# Altium schematic symbol library Inductor.SchLib: 65 symbols
Pins are listed as number, name and electrical type; pins without a type are passive.

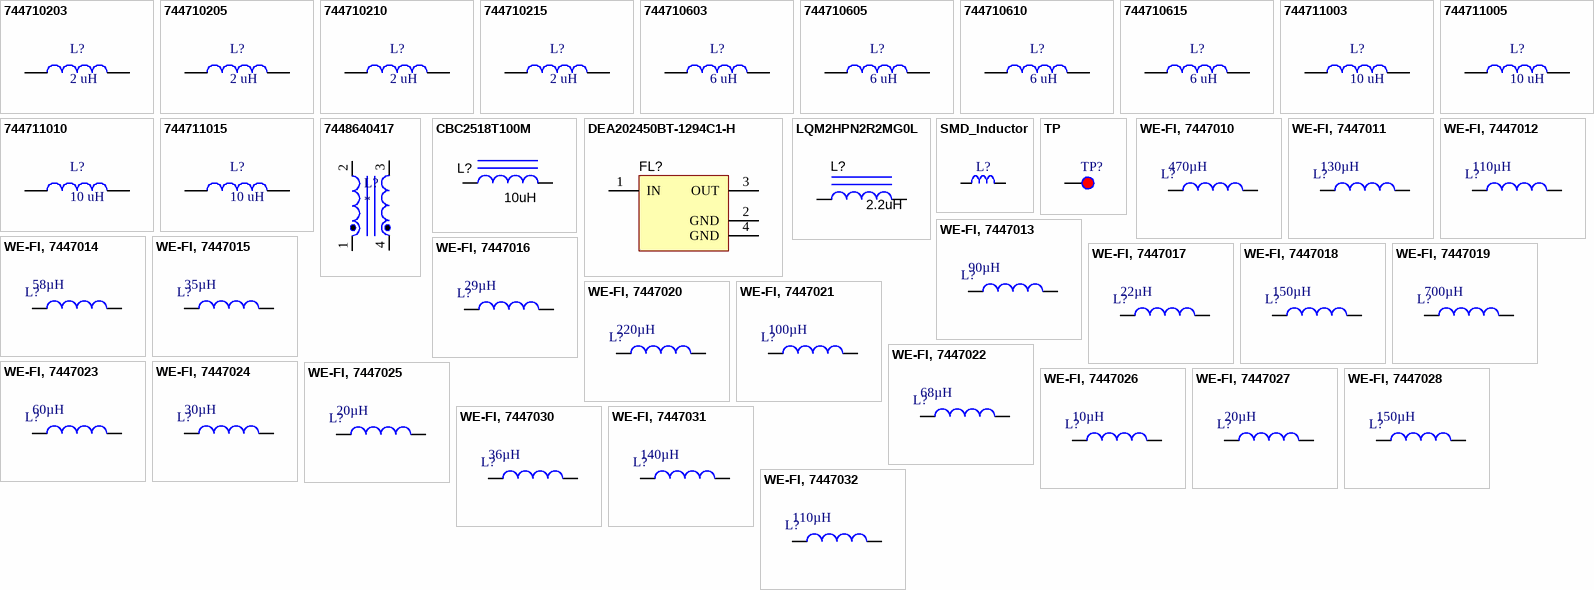
[diagram p0: symbols 744710203 to WE-FI, 7447032]

## 744710203
designator L?, comment 2 uH
WE-SD Rod Core Choke, 2 uH; PartNumber: 744710203; RatedCurrent: 2.5 A; PublishedDate: Nov. 2016; Publisher: Wurth Elektronik; ComponentLink1Description: Manufacturer; ComponentLink1URL: http://www.we-online.de; ComponentLink2Description: Datasheet; ComponentLink2URL: http://katalog.we-online.de/pbs/datasheet/744710203.pdf; Value: 2 uH
footprint 744710203
pins: 1, 2

## 744710205
designator L?, comment 2 uH
WE-SD Rod Core Choke, 2 uH; PartNumber: 744710205; RatedCurrent: 5 A; PublishedDate: Nov. 2016; Publisher: Wurth Elektronik; ComponentLink1Description: Manufacturer; ComponentLink1URL: http://www.we-online.de; ComponentLink2Description: Datasheet; ComponentLink2URL: http://katalog.we-online.de/pbs/datasheet/744710205.pdf; Value: 2 uH
footprint 744710205
pins: 1, 2

## 744710210
designator L?, comment 2 uH
WE-SD Rod Core Choke, 2 uH; PartNumber: 744710210; RatedCurrent: 10 A; PublishedDate: Nov. 2016; Publisher: Wurth Elektronik; ComponentLink1Description: Manufacturer; ComponentLink1URL: http://www.we-online.de; ComponentLink2Description: Datasheet; ComponentLink2URL: http://katalog.we-online.de/pbs/datasheet/744710210.pdf; Value: 2 uH
footprint 744710210
pins: 1, 2

## 744710215
designator L?, comment 2 uH
WE-SD Rod Core Choke, 2 uH; PartNumber: 744710215; RatedCurrent: 15 A; PublishedDate: Nov. 2016; Publisher: Wurth Elektronik; ComponentLink1Description: Manufacturer; ComponentLink1URL: http://www.we-online.de; ComponentLink2Description: Datasheet; ComponentLink2URL: http://katalog.we-online.de/pbs/datasheet/744710215.pdf; Value: 2 uH
footprint 744710215
pins: 1, 2

## 744710603
designator L?, comment 6 uH
WE-SD Rod Core Choke, 6 uH; PartNumber: 744710603; RatedCurrent: 2.5 A; PublishedDate: Nov. 2016; Publisher: Wurth Elektronik; ComponentLink1Description: Manufacturer; ComponentLink1URL: http://www.we-online.de; ComponentLink2Description: Datasheet; ComponentLink2URL: http://katalog.we-online.de/pbs/datasheet/744710603.pdf; Value: 6 uH
footprint 744710603
pins: 1, 2

## 744710605
designator L?, comment 6 uH
WE-SD Rod Core Choke, 6 uH; PartNumber: 744710605; RatedCurrent: 5 A; PublishedDate: Nov. 2016; Publisher: Wurth Elektronik; ComponentLink1Description: Manufacturer; ComponentLink1URL: http://www.we-online.de; ComponentLink2Description: Datasheet; ComponentLink2URL: http://katalog.we-online.de/pbs/datasheet/744710605.pdf; Value: 6 uH
footprint 744710605
pins: 1, 2

## 744710610
designator L?, comment 6 uH
WE-SD Rod Core Choke, 6 uH; PartNumber: 744710610; RatedCurrent: 10 A; PublishedDate: Nov. 2016; Publisher: Wurth Elektronik; ComponentLink1Description: Manufacturer; ComponentLink1URL: http://www.we-online.de; ComponentLink2Description: Datasheet; ComponentLink2URL: http://katalog.we-online.de/pbs/datasheet/744710610.pdf; Value: 6 uH
footprint 744710610
pins: 1, 2

## 744710615
designator L?, comment 6 uH
WE-SD Rod Core Choke, 6 uH; PartNumber: 744710615; RatedCurrent: 15 A; PublishedDate: Nov. 2016; Publisher: Wurth Elektronik; ComponentLink1Description: Manufacturer; ComponentLink1URL: http://www.we-online.de; ComponentLink2Description: Datasheet; ComponentLink2URL: http://katalog.we-online.de/pbs/datasheet/744710615.pdf; Value: 6 uH
footprint 744710615
pins: 1, 2

## 744711003
designator L?, comment 10 uH
WE-SD Rod Core Choke, 10 uH; PartNumber: 744711003; RatedCurrent: 2.5 A; PublishedDate: Nov. 2016; Publisher: Wurth Elektronik; ComponentLink1Description: Manufacturer; ComponentLink1URL: http://www.we-online.de; ComponentLink2Description: Datasheet; ComponentLink2URL: http://katalog.we-online.de/pbs/datasheet/744711003.pdf; Value: 10 uH
footprint 744711003
pins: 1, 2

## 744711005
designator L?, comment 10 uH
WE-SD Rod Core Choke, 10 uH; PartNumber: 744711005; RatedCurrent: 5 A; PublishedDate: Nov. 2016; Publisher: Wurth Elektronik; ComponentLink1Description: Manufacturer; ComponentLink1URL: http://www.we-online.de; ComponentLink2Description: Datasheet; ComponentLink2URL: http://katalog.we-online.de/pbs/datasheet/744711005.pdf; Value: 10 uH
footprint 744711005
pins: 1, 2

## 744711010
designator L?, comment 10 uH
WE-SD Rod Core Choke, 10 uH; PartNumber: 744711010; RatedCurrent: 10 A; PublishedDate: Nov. 2016; Publisher: Wurth Elektronik; ComponentLink1Description: Manufacturer; ComponentLink1URL: http://www.we-online.de; ComponentLink2Description: Datasheet; ComponentLink2URL: http://katalog.we-online.de/pbs/datasheet/744711010.pdf; Value: 10 uH
footprint 744711010
pins: 1, 2

## 744711015
designator L?, comment 10 uH
WE-SD Rod Core Choke, 10 uH; PartNumber: 744711015; RatedCurrent: 15 A; PublishedDate: Nov. 2016; Publisher: Wurth Elektronik; ComponentLink1Description: Manufacturer; ComponentLink1URL: http://www.we-online.de; ComponentLink2Description: Datasheet; ComponentLink2URL: http://katalog.we-online.de/pbs/datasheet/744711015.pdf; Value: 10 uH
footprint 744711015
pins: 1, 2

## 7448640417
designator L?
footprint 7448640417
pins: 1, 2, 3, 4

## CBC2518T100M
designator L?  value 10uH  (hidden comment: CBC2518T100M)
Inductor, Wirewound, Ceramic, 10 µH, 0.48 A, 0.36 ohm, SMD; Manufacturer: Taiyo Yuden; Ind_H: 10.0E-6; ValueDisplayed: 10µH; Imax_A: 0.48; Irms: 0.68A @ 40C rise; Isat: 0.48A @ 30% inductance drop; DCR_ohm: 0.36; Value2: 0.48A; SymbolVersion: 2008-07-23; CompType: Inductor; PartNumber: CBC2518T100M; Value1: 0.36 ohm; Technology: Wirewound; MountType: SMT; Material: Ceramic; PackageReference: 2.5x1.8x1.8mm; Published: 2008-06-26; Publisher: Texas Instruments; LatestRevisionDate: 2015-02-17; ComponentLink1Description: Datasheet link; ComponentLink1URL: http://www.yuden.co.jp/productdata/catalog/en/wound02_e.pdf; RoHS: Y; Supplier 1: Digi-Key; Supplier Part Number 1: 587-1613-1-ND; Supplier 2: Farnell; Supplier Part Number 2: 1786111
signal-integrity model Inductor
simulation model Inductor
footprint CBC2518
pins: 1, 2

## DEA202450BT-1294C1-H
designator FL?  (value not drawn)
Multilayer Chip Band Pass Filter For 2.4GHz W-LAN/Bluetooth, SMD; Manufacturer: TDK; SymbolCreator: Altium; Value: 1.02 dB; SymbolVersion: 2015-01-04; PartNumber: DEA202450BT-1294C1-H; CompType: Filter; MountType: SMT; ComponentLink1Description: Datasheet Link; ComponentLink1URL: http://product.tdk.com/en/catalog/datasheets/rf_bpf_dea202450bt-1294c1-h_en.pdf; RoHS: Y; PackageReference: 2x1.25mm; Publisher: Texas Instruments; LatestRevisionDate: 2015-02-19; Supplier 1: Digi-Key; Supplier Part Number 1: 445-172335-1-ND; Supplier 2: Mouser; Supplier Part Number 2: 810-DEA202450BT1294C
footprint TDK_DEA202450BT-1294C1-H
pins: 1 IN, 2 GND (power), 3 OUT, 4 GND (power)

## LQM2HPN2R2MG0L
designator L?  value 2.2uH  (hidden comment: LQM2HPN2R2MG0L)
Inductor, Multilayer, Ferrite, 2.2 µH, 1.3 A, 0.08 ohm, SMD; Manufacturer: MuRata; Ind_H: 2.2E-6; ValueDisplayed: 2.2µH; Imax_A: 1.3; Irms: 1.3A @ 40C rise; DCR_ohm: 0.08; Value2: 1.3A; SymbolVersion: 2008-07-23; CompType: Inductor; PartNumber: LQM2HPN2R2MG0L; Value1: 0.08 ohm; Technology: Multilayer; MountType: SMT; Material: Ferrite; PackageReference: SMD, Body 2.5x2mm, Height 1.2mm; Published: 2008-06-26; Publisher: Texas Instruments; LatestRevisionDate: 2015-03-02; ComponentLink1Description: Datasheet link; ComponentLink1URL: http://psearch.murata.com/inductor/product/LQM2HPN2R2MG0%23.pdf; RoHS: Y; Supplier 1: Digi-Key; Supplier Part Number 1: 490-5114-1-ND; Supplier 2: Mouser; Supplier Part Number 2: 81-LQM2HPN2R2MG0L
footprint 1008
pins: 1, 2

## SMD_Inductor
designator L?
footprint VLCF5020-1
footprint 2510
footprint 2520 (SMD High Frequence Inductor, size 2520)
footprint 3225 (SMD High Frequence Inductor, size 3225)
footprint 4532 (SMD High Frequence Inductor, size 4532)
footprint FER 0201/0603 (Chip Inductor, 2-Leads, Body 0.60x0.30mm, IPC Medium Density)
footprint FER 0402/1005 (Chip Ferrite, 2-Leads, Body 1.02x0.51mm, IPC Medium Density)
footprint FER 0603/1608 (Chip Ferrite, 2-Leads, Body 1.60x0.80mm, IPC Medium Density)
footprint FER 0805/2012 (Chip Ferrite, 2-Leads, Body 2.00x1.20mm, IPC Medium Density)
pins: 1, 2

## TP
designator TP?
footprint TP
pins: 1

## WE-FI, 7447010
designator L?  value 470µH
WE-FI Leaded Toroidal Line Choke, L = 470µH; partNo: 7447010; Manufacturer: Wurth Elektronik; ComponentLink1Description: Manufacturer; ComponentLink1URL: http://www.we-online.de; Created by: Baojun Chen; Created Date: Feb.2016; ComponentLink2Description: Datasheet; ComponentLink2URL: http://katalog.we-online.de/pbs/datasheet/7447010.pdf
footprint 7447010
pins: 1, 2

## WE-FI, 7447011
designator L?  value 130µH
WE-FI Leaded Toroidal Line Choke, L = 130µH; partNo: 7447011; Manufacturer: Wurth Elektronik; ComponentLink1Description: Manufacturer; ComponentLink1URL: http://www.we-online.de; Created by: Baojun Chen; Created Date: Feb.2016; ComponentLink2Description: Datasheet; ComponentLink2URL: http://katalog.we-online.de/pbs/datasheet/7447011.pdf
footprint 7447011
pins: 1, 2

## WE-FI, 7447012
designator L?  value 110µH
WE-FI Leaded Toroidal Line Choke, L = 110µH; partNo: 7447012; Manufacturer: Wurth Elektronik; ComponentLink1Description: Manufacturer; ComponentLink1URL: http://www.we-online.de; Created by: Baojun Chen; Created Date: Feb.2016; ComponentLink2Description: Datasheet; ComponentLink2URL: http://katalog.we-online.de/pbs/datasheet/7447012.pdf
footprint 7447012
pins: 1, 2

## WE-FI, 7447013
designator L?  value 90µH
WE-FI Leaded Toroidal Line Choke, L = 90µH; partNo: 7447013; Manufacturer: Wurth Elektronik; ComponentLink1Description: Manufacturer; ComponentLink1URL: http://www.we-online.de; Created by: Baojun Chen; Created Date: Feb.2016; ComponentLink2Description: Datasheet; ComponentLink2URL: http://katalog.we-online.de/pbs/datasheet/7447013.pdf
footprint 7447013
pins: 1, 2

## WE-FI, 7447014
designator L?  value 58µH
WE-FI Leaded Toroidal Line Choke, L = 58µH; partNo: 7447014; Manufacturer: Wurth Elektronik; ComponentLink1Description: Manufacturer; ComponentLink1URL: http://www.we-online.de; Created by: Baojun Chen; Created Date: Feb.2016; ComponentLink2Description: Datasheet; ComponentLink2URL: http://katalog.we-online.de/pbs/datasheet/7447014.pdf
footprint 7447014
pins: 1, 2

## WE-FI, 7447015
designator L?  value 35µH
WE-FI Leaded Toroidal Line Choke, L = 35µH; partNo: 7447015; Manufacturer: Wurth Elektronik; ComponentLink1Description: Manufacturer; ComponentLink1URL: http://www.we-online.de; Created by: Baojun Chen; Created Date: Feb.2016; ComponentLink2Description: Datasheet; ComponentLink2URL: http://katalog.we-online.de/pbs/datasheet/7447015.pdf
footprint 7447015
pins: 1, 2

## WE-FI, 7447016
designator L?  value 29µH
WE-FI Leaded Toroidal Line Choke, L = 29µH; partNo: 7447016; Manufacturer: Wurth Elektronik; ComponentLink1Description: Manufacturer; ComponentLink1URL: http://www.we-online.de; Created by: Baojun Chen; Created Date: Feb.2016; ComponentLink2Description: Datasheet; ComponentLink2URL: http://katalog.we-online.de/pbs/datasheet/7447016.pdf
footprint 7447016
pins: 1, 2

## WE-FI, 7447017
designator L?  value 22µH
WE-FI Leaded Toroidal Line Choke, L = 22µH; partNo: 7447017; Manufacturer: Wurth Elektronik; ComponentLink1Description: Manufacturer; ComponentLink1URL: http://www.we-online.de; Created by: Baojun Chen; Created Date: Feb.2016; ComponentLink2Description: Datasheet; ComponentLink2URL: http://katalog.we-online.de/pbs/datasheet/7447017.pdf
footprint 7447017
pins: 1, 2

## WE-FI, 7447018
designator L?  value 150µH
WE-FI Leaded Toroidal Line Choke, L = 150µH; partNo: 7447018; Manufacturer: Wurth Elektronik; ComponentLink1Description: Manufacturer; ComponentLink1URL: http://www.we-online.de; Created by: Baojun Chen; Created Date: Feb.2016; ComponentLink2Description: Datasheet; ComponentLink2URL: http://katalog.we-online.de/pbs/datasheet/7447018.pdf
footprint 7447018
pins: 1, 2

## WE-FI, 7447019
designator L?  value 700µH
WE-FI Leaded Toroidal Line Choke, L = 700µH; partNo: 7447019; Manufacturer: Wurth Elektronik; ComponentLink1Description: Manufacturer; ComponentLink1URL: http://www.we-online.de; Created by: Baojun Chen; Created Date: Feb.2016; ComponentLink2Description: Datasheet; ComponentLink2URL: http://katalog.we-online.de/pbs/datasheet/7447019.pdf
footprint 7447019
pins: 1, 2

## WE-FI, 7447020
designator L?  value 220µH
WE-FI Leaded Toroidal Line Choke, L = 220µH; partNo: 7447020; Manufacturer: Wurth Elektronik; ComponentLink1Description: Manufacturer; ComponentLink1URL: http://www.we-online.de; Created by: Baojun Chen; Created Date: Feb.2016; ComponentLink2Description: Datasheet; ComponentLink2URL: 7447020
footprint 7447020
pins: 1, 2

## WE-FI, 7447021
designator L?  value 100µH
WE-FI Leaded Toroidal Line Choke, L = 100µH; partNo: 7447021; Manufacturer: Wurth Elektronik; ComponentLink1Description: Manufacturer; ComponentLink1URL: http://www.we-online.de; Created by: Baojun Chen; Created Date: Feb.2016; ComponentLink2Description: Datasheet; ComponentLink2URL: http://katalog.we-online.de/pbs/datasheet/7447021.pdf
footprint 7447021
pins: 1, 2

## WE-FI, 7447022
designator L?  value 68µH
WE-FI Leaded Toroidal Line Choke, L = 68µH; partNo: 7447022; Manufacturer: Wurth Elektronik; ComponentLink1Description: Manufacturer; ComponentLink1URL: http://www.we-online.de; Created by: Baojun Chen; Created Date: Feb.2016; ComponentLink2Description: Datasheet; ComponentLink2URL: http://katalog.we-online.de/pbs/datasheet/7447022.pdf
footprint 7447022
pins: 1, 2

## WE-FI, 7447023
designator L?  value 60µH
WE-FI Leaded Toroidal Line Choke, L = 60µH; partNo: 7447023; Manufacturer: Wurth Elektronik; ComponentLink1Description: Manufacturer; ComponentLink1URL: http://www.we-online.de; Created by: Baojun Chen; Created Date: Feb.2016; ComponentLink2Description: Datasheet; ComponentLink2URL: http://katalog.we-online.de/pbs/datasheet/7447023.pdf
footprint 7447023
pins: 1, 2

## WE-FI, 7447024
designator L?  value 30µH
WE-FI Leaded Toroidal Line Choke, L = 30µH; partNo: 7447024; Manufacturer: Wurth Elektronik; ComponentLink1Description: Manufacturer; ComponentLink1URL: http://www.we-online.de; Created by: Baojun Chen; Created Date: Feb.2016; ComponentLink2Description: Datasheet; ComponentLink2URL: http://katalog.we-online.de/pbs/datasheet/7447024.pdf
footprint 7447024
pins: 1, 2

## WE-FI, 7447025
designator L?  value 20µH
WE-FI Leaded Toroidal Line Choke, L = 20µH; partNo: 7447025; Manufacturer: Wurth Elektronik; ComponentLink1Description: Manufacturer; ComponentLink1URL: http://www.we-online.de; Created by: Baojun Chen; Created Date: Feb.2016; ComponentLink2Description: Datasheet; ComponentLink2URL: http://katalog.we-online.de/pbs/datasheet/7447025.pdf
footprint 7447025
pins: 1, 2

## WE-FI, 7447026
designator L?  value 10µH
WE-FI Leaded Toroidal Line Choke, L = 10µH; partNo: 7447026; Manufacturer: Wurth Elektronik; ComponentLink1Description: Manufacturer; ComponentLink1URL: http://www.we-online.de; Created by: Baojun Chen; Created Date: Feb.2016; ComponentLink2Description: Datasheet; ComponentLink2URL: http://katalog.we-online.de/pbs/datasheet/7447026.pdf
footprint 7447026
pins: 1, 2

## WE-FI, 7447027
designator L?  value 20µH
WE-FI Leaded Toroidal Line Choke, L = 20µH; partNo: 7447027; Manufacturer: Wurth Elektronik; ComponentLink1Description: Manufacturer; ComponentLink1URL: http://www.we-online.de; Created by: Baojun Chen; Created Date: Feb.2016; ComponentLink2Description: Datasheet; ComponentLink2URL: http://katalog.we-online.de/pbs/datasheet/7447027.pdf
footprint 7447027
pins: 1, 2

## WE-FI, 7447028
designator L?  value 150µH
WE-FI Leaded Toroidal Line Choke, L = 150µH; partNo: 7447028; Manufacturer: Wurth Elektronik; ComponentLink1Description: Manufacturer; ComponentLink1URL: http://www.we-online.de; Created by: Baojun Chen; Created Date: Feb.2016; ComponentLink2Description: Datasheet; ComponentLink2URL: http://katalog.we-online.de/pbs/datasheet/7447028.pdf
footprint 7447028
pins: 1, 2

## WE-FI, 7447030
designator L?  value 36µH
WE-FI Leaded Toroidal Line Choke, L = 36µH; partNo: 7447030; Manufacturer: Wurth Elektronik; ComponentLink1Description: Manufacturer; ComponentLink1URL: http://www.we-online.de; Created by: Baojun Chen; Created Date: Feb.2016; ComponentLink2Description: Datasheet; ComponentLink2URL: http://katalog.we-online.de/pbs/datasheet/7447030.pdf
footprint 7447030
pins: 1, 2

## WE-FI, 7447031
designator L?  value 140µH
WE-FI Leaded Toroidal Line Choke, L = 140µH; partNo: 7447031; Manufacturer: Wurth Elektronik; ComponentLink1Description: Manufacturer; ComponentLink1URL: http://www.we-online.de; Created by: Baojun Chen; Created Date: Feb.2016; ComponentLink2Description: Datasheet; ComponentLink2URL: http://katalog.we-online.de/pbs/datasheet/7447031.pdf
footprint 7447031
pins: 1, 2

## WE-FI, 7447032
designator L?  value 110µH
WE-FI Leaded Toroidal Line Choke, L = 110µH; partNo: 7447032; Manufacturer: Wurth Elektronik; ComponentLink1Description: Manufacturer; ComponentLink1URL: http://www.we-online.de; Created by: Baojun Chen; Created Date: Feb.2016; ComponentLink2Description: Datasheet; ComponentLink2URL: http://katalog.we-online.de/pbs/datasheet/7447032.pdf
footprint 7447032
pins: 1, 2

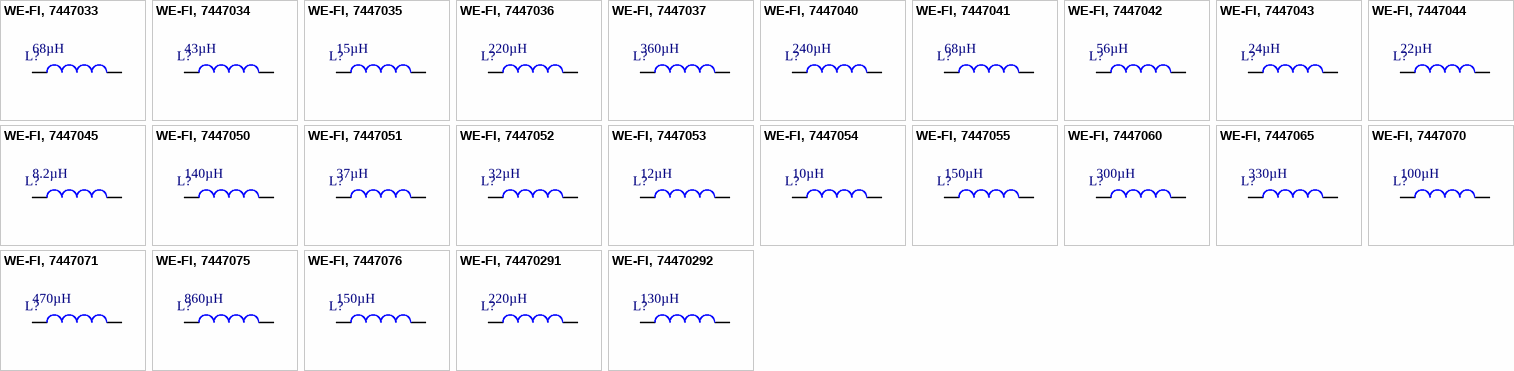
[diagram p1: symbols WE-FI, 7447033 to WE-FI, 74470292]

## WE-FI, 7447033
designator L?  value 68µH
WE-FI Leaded Toroidal Line Choke, L = 68µH; partNo: 7447033; Manufacturer: Wurth Elektronik; ComponentLink1Description: Manufacturer; ComponentLink1URL: http://www.we-online.de; Created by: Baojun Chen; Created Date: Feb.2016; ComponentLink2Description: Datasheet; ComponentLink2URL: http://katalog.we-online.de/pbs/datasheet/7447033.pdf
footprint 7447033
pins: 1, 2

## WE-FI, 7447034
designator L?  value 43µH
WE-FI Leaded Toroidal Line Choke, L = 43µH; partNo: 7447034; Manufacturer: Wurth Elektronik; ComponentLink1Description: Manufacturer; ComponentLink1URL: http://www.we-online.de; Created by: Baojun Chen; Created Date: Feb.2016; ComponentLink2Description: Datasheet; ComponentLink2URL: http://katalog.we-online.de/pbs/datasheet/7447034.pdf
footprint 7447034
pins: 1, 2

## WE-FI, 7447035
designator L?  value 15µH
WE-FI Leaded Toroidal Line Choke, L = 15µH; partNo: 7447035; Manufacturer: Wurth Elektronik; ComponentLink1Description: Manufacturer; ComponentLink1URL: http://www.we-online.de; Created by: Baojun Chen; Created Date: Feb.2016; ComponentLink2Description: Datasheet; ComponentLink2URL: http://katalog.we-online.de/pbs/datasheet/7447035.pdf
footprint 7447035
pins: 1, 2

## WE-FI, 7447036
designator L?  value 220µH
WE-FI Leaded Toroidal Line Choke, L = 220µH; partNo: 7447036; Manufacturer: Wurth Elektronik; ComponentLink1Description: Manufacturer; ComponentLink1URL: http://www.we-online.de; Created by: Baojun Chen; Created Date: Feb.2016; ComponentLink2Description: Datasheet; ComponentLink2URL: http://katalog.we-online.de/pbs/datasheet/7447036.pdf
footprint 7447036
pins: 1, 2

## WE-FI, 7447037
designator L?  value 360µH
WE-FI Leaded Toroidal Line Choke, L = 360µH; partNo: 7447037; Manufacturer: Wurth Elektronik; ComponentLink1Description: Manufacturer; ComponentLink1URL: http://www.we-online.de; Created by: Baojun Chen; Created Date: Feb.2016; ComponentLink2Description: Datasheet; ComponentLink2URL: http://katalog.we-online.de/pbs/datasheet/7447037.pdf
footprint 7447037
pins: 1, 2

## WE-FI, 7447040
designator L?  value 240µH
WE-FI Leaded Toroidal Line Choke, L = 240µH; partNo: 7447040; Manufacturer: Wurth Elektronik; ComponentLink1Description: Manufacturer; ComponentLink1URL: http://www.we-online.de; Created by: Baojun Chen; Created Date: Feb.2016; ComponentLink2Description: Datasheet; ComponentLink2URL: http://katalog.we-online.de/pbs/datasheet/7447040.pdf
footprint 7447040
pins: 1, 2

## WE-FI, 7447041
designator L?  value 68µH
WE-FI Leaded Toroidal Line Choke, L = 68µH; partNo: 7447041; Manufacturer: Wurth Elektronik; ComponentLink1Description: Manufacturer; ComponentLink1URL: http://www.we-online.de; Created by: Baojun Chen; Created Date: Feb.2016; ComponentLink2Description: Datasheet; ComponentLink2URL: http://katalog.we-online.de/pbs/datasheet/7447041.pdf
footprint 7447041
pins: 1, 2

## WE-FI, 7447042
designator L?  value 56µH
WE-FI Leaded Toroidal Line Choke, L = 56µH; partNo: 7447042; Manufacturer: Wurth Elektronik; ComponentLink1Description: Manufacturer; ComponentLink1URL: http://www.we-online.de; Created by: Baojun Chen; Created Date: Feb.2016; ComponentLink2Description: Datasheet; ComponentLink2URL: http://katalog.we-online.de/pbs/datasheet/7447042.pdf
footprint 7447042
pins: 1, 2

## WE-FI, 7447043
designator L?  value 24µH
WE-FI Leaded Toroidal Line Choke, L = 24µH; partNo: 7447043; Manufacturer: Wurth Elektronik; ComponentLink1Description: Manufacturer; ComponentLink1URL: http://www.we-online.de; Created by: Baojun Chen; Created Date: Feb.2016; ComponentLink2Description: Datasheet; ComponentLink2URL: http://katalog.we-online.de/pbs/datasheet/7447043.pdf
footprint 7447043
pins: 1, 2

## WE-FI, 7447044
designator L?  value 22µH
WE-FI Leaded Toroidal Line Choke, L = 22µH; partNo: 7447044; Manufacturer: Wurth Elektronik; ComponentLink1Description: Manufacturer; ComponentLink1URL: http://www.we-online.de; Created by: Baojun Chen; Created Date: Feb.2016; ComponentLink2Description: Datasheet; ComponentLink2URL: http://katalog.we-online.de/pbs/datasheet/7447044.pdf
footprint 7447044
pins: 1, 2

## WE-FI, 7447045
designator L?  value 8.2µH
WE-FI Leaded Toroidal Line Choke, L = 8.2µH; partNo: 7447045; Manufacturer: Wurth Elektronik; ComponentLink1Description: Manufacturer; ComponentLink1URL: http://www.we-online.de; Created by: Baojun Chen; Created Date: Feb.2016; ComponentLink2Description: Datasheet; ComponentLink2URL: http://katalog.we-online.de/pbs/datasheet/7447045.pdf
footprint 7447045
pins: 1, 2

## WE-FI, 7447050
designator L?  value 140µH
WE-FI Leaded Toroidal Line Choke, L = 140µH; partNo: 7447050; Manufacturer: Wurth Elektronik; ComponentLink1Description: Manufacturer; ComponentLink1URL: http://www.we-online.de; Created by: Baojun Chen; Created Date: Feb.2016; ComponentLink2Description: Datasheet; ComponentLink2URL: http://katalog.we-online.de/pbs/datasheet/7447050.pdf
footprint 7447050
pins: 1, 2

## WE-FI, 7447051
designator L?  value 37µH
WE-FI Leaded Toroidal Line Choke, L = 37µH; partNo: 7447051; Manufacturer: Wurth Elektronik; ComponentLink1Description: Manufacturer; ComponentLink1URL: http://www.we-online.de; Created by: Baojun Chen; Created Date: Feb.2016; ComponentLink2Description: Datasheet; ComponentLink2URL: http://katalog.we-online.de/pbs/datasheet/7447051.pdf
footprint 7447051
pins: 1, 2

## WE-FI, 7447052
designator L?  value 32µH
WE-FI Leaded Toroidal Line Choke, L = 32µH; partNo: 7447052; Manufacturer: Wurth Elektronik; ComponentLink1Description: Manufacturer; ComponentLink1URL: http://www.we-online.de; Created by: Baojun Chen; Created Date: Feb.2016; ComponentLink2Description: Datasheet; ComponentLink2URL: http://katalog.we-online.de/pbs/datasheet/7447052.pdf
footprint 7447052
pins: 1, 2

## WE-FI, 7447053
designator L?  value 12µH
WE-FI Leaded Toroidal Line Choke, L = 12µH; partNo: 7447053; Manufacturer: Wurth Elektronik; ComponentLink1Description: Manufacturer; ComponentLink1URL: http://www.we-online.de; Created by: Baojun Chen; Created Date: Feb.2016; ComponentLink2Description: Datasheet; ComponentLink2URL: http://katalog.we-online.de/pbs/datasheet/7447053.pdf
footprint 7447053
pins: 1, 2

## WE-FI, 7447054
designator L?  value 10µH
WE-FI Leaded Toroidal Line Choke, L = 10µH; partNo: 7447054; Manufacturer: Wurth Elektronik; ComponentLink1Description: Manufacturer; ComponentLink1URL: http://www.we-online.de; Created by: Baojun Chen; Created Date: Feb.2016; ComponentLink2Description: Datasheet; ComponentLink2URL: http://katalog.we-online.de/pbs/datasheet/7447054.pdf
footprint 7447054
pins: 1, 2

## WE-FI, 7447055
designator L?  value 150µH
WE-FI Leaded Toroidal Line Choke, L = 150µH; partNo: 7447055; Manufacturer: Wurth Elektronik; ComponentLink1Description: Manufacturer; ComponentLink1URL: http://www.we-online.de; Created by: Baojun Chen; Created Date: Feb.2016; ComponentLink2Description: Datasheet; ComponentLink2URL: http://katalog.we-online.de/pbs/datasheet/7447055.pdf
footprint 7447055
pins: 1, 2

## WE-FI, 7447060
designator L?  value 300µH
WE-FI Leaded Toroidal Line Choke, L = 300µH; partNo: 7447060; Manufacturer: Wurth Elektronik; ComponentLink1Description: Manufacturer; ComponentLink1URL: http://www.we-online.de; Created by: Baojun Chen; Created Date: Feb.2016; ComponentLink2Description: Datasheet; ComponentLink2URL: http://katalog.we-online.de/pbs/datasheet/7447060.pdf
footprint 7447060
pins: 1, 2

## WE-FI, 7447065
designator L?  value 330µH
WE-FI Leaded Toroidal Line Choke, L = 330µH; partNo: 7447065; Manufacturer: Wurth Elektronik; ComponentLink1Description: Manufacturer; ComponentLink1URL: http://www.we-online.de; Created by: Baojun Chen; Created Date: Feb.2016; ComponentLink2Description: Datasheet; ComponentLink2URL: http://katalog.we-online.de/pbs/datasheet/7447065.pdf
footprint 7447065
pins: 1, 2

## WE-FI, 7447070
designator L?  value 100µH
WE-FI Leaded Toroidal Line Choke, L = 100µH; partNo: 7447070; Manufacturer: Wurth Elektronik; ComponentLink1Description: Manufacturer; ComponentLink1URL: http://www.we-online.de; Created by: Baojun Chen; Created Date: Feb.2016; ComponentLink2Description: Datasheet; ComponentLink2URL: http://katalog.we-online.de/pbs/datasheet/7447070.pdf
footprint 7447070
pins: 1, 2

## WE-FI, 7447071
designator L?  value 470µH
WE-FI Leaded Toroidal Line Choke, L = 470µH; partNo: 7447071; Manufacturer: Wurth Elektronik; ComponentLink1Description: Manufacturer; ComponentLink1URL: http://www.we-online.de; Created by: Baojun Chen; Created Date: Feb.2016; ComponentLink2Description: Datasheet; ComponentLink2URL: http://katalog.we-online.de/pbs/datasheet/7447071.pdf
footprint 7447071
pins: 1, 2

## WE-FI, 7447075
designator L?  value 860µH
WE-FI Leaded Toroidal Line Choke, L = 860µH; partNo: 7447075; Manufacturer: Wurth Elektronik; ComponentLink1Description: Manufacturer; ComponentLink1URL: http://www.we-online.de; Created by: Baojun Chen; Created Date: Feb.2016; ComponentLink2Description: Datasheet; ComponentLink2URL: http://katalog.we-online.de/pbs/datasheet/7447075.pdf
footprint 7447075
pins: 1, 2

## WE-FI, 7447076
designator L?  value 150µH
WE-FI Leaded Toroidal Line Choke, L = 150µH; partNo: 7447076; Manufacturer: Wurth Elektronik; ComponentLink1Description: Manufacturer; ComponentLink1URL: http://www.we-online.de; Created by: Baojun Chen; Created Date: Feb.2016; ComponentLink2Description: Datasheet; ComponentLink2URL: http://katalog.we-online.de/pbs/datasheet/7447076.pdf
footprint 7447076
pins: 1, 2

## WE-FI, 74470291
designator L?  value 220µH
WE-FI Leaded Toroidal Line Choke, L = 220µH; partNo: 74470291; Manufacturer: Wurth Elektronik; ComponentLink1Description: Manufacturer; ComponentLink1URL: http://www.we-online.de; Created by: Baojun Chen; Created Date: Feb.2016; ComponentLink2Description: Datasheet; ComponentLink2URL: http://katalog.we-online.de/pbs/datasheet/74470291.pdf
footprint 74470291
pins: 1, 2

## WE-FI, 74470292
designator L?  value 130µH
WE-FI Leaded Toroidal Line Choke, L = 130µH; partNo: 74470292; Manufacturer: Wurth Elektronik; ComponentLink1Description: Manufacturer; ComponentLink1URL: http://www.we-online.de; Created by: Baojun Chen; Created Date: Feb.2016; ComponentLink2Description: Datasheet; ComponentLink2URL: http://katalog.we-online.de/pbs/datasheet/74470292.pdf
footprint 74470292
pins: 1, 2